# Altium schematic symbol library LM393DR.SchLib: 1 symbol
Pins are listed as number, name and electrical type; pins without a type are passive.

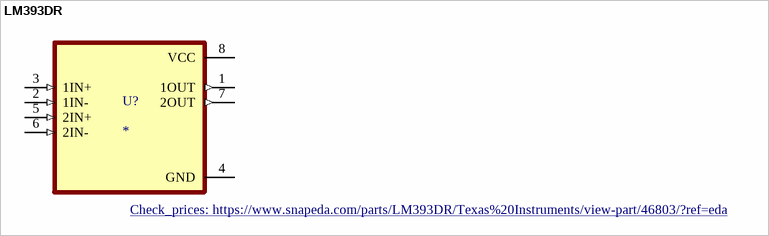
[diagram p0: symbol LM393DR]

## LM393DR
designator U?
Dual differential comparator, commercial grade 8-SOIC 0 to 70; MF: Texas Instruments; MP: LM393DR; Value: *; SnapEDA_Link: https://www.snapeda.com/parts/LM393DR/Texas%20Instruments/view-part/46803/?ref=snap; Purchase-URL: https://pricing.snapeda.com/search/part/LM393DR/?ref=eda; Price: None; Availability: Good; Package: SOIC-8 Texas Instruments; Check_prices: https://www.snapeda.com/parts/LM393DR/Texas%20Instruments/view-part/46803/?ref=eda
pins: 1 1OUT (out), 2 1IN- (in), 3 1IN+ (in), 4 GND (power), 5 2IN+ (in), 6 2IN- (in), 7 2OUT (out), 8 VCC (power)